# Altium footprint library XS128.PcbLib: 26 footprints (part 2 of 2)
Each footprint in its own frame and in the unit in brackets; x right, y up, seen from the top. Pads: shape width x height; smd on the part's side, far side on the other; paste and mask are expansions set on the pad; w line width, h text height; cw(c..) or ccw(c..) is an arc to the next point about the centre after c.
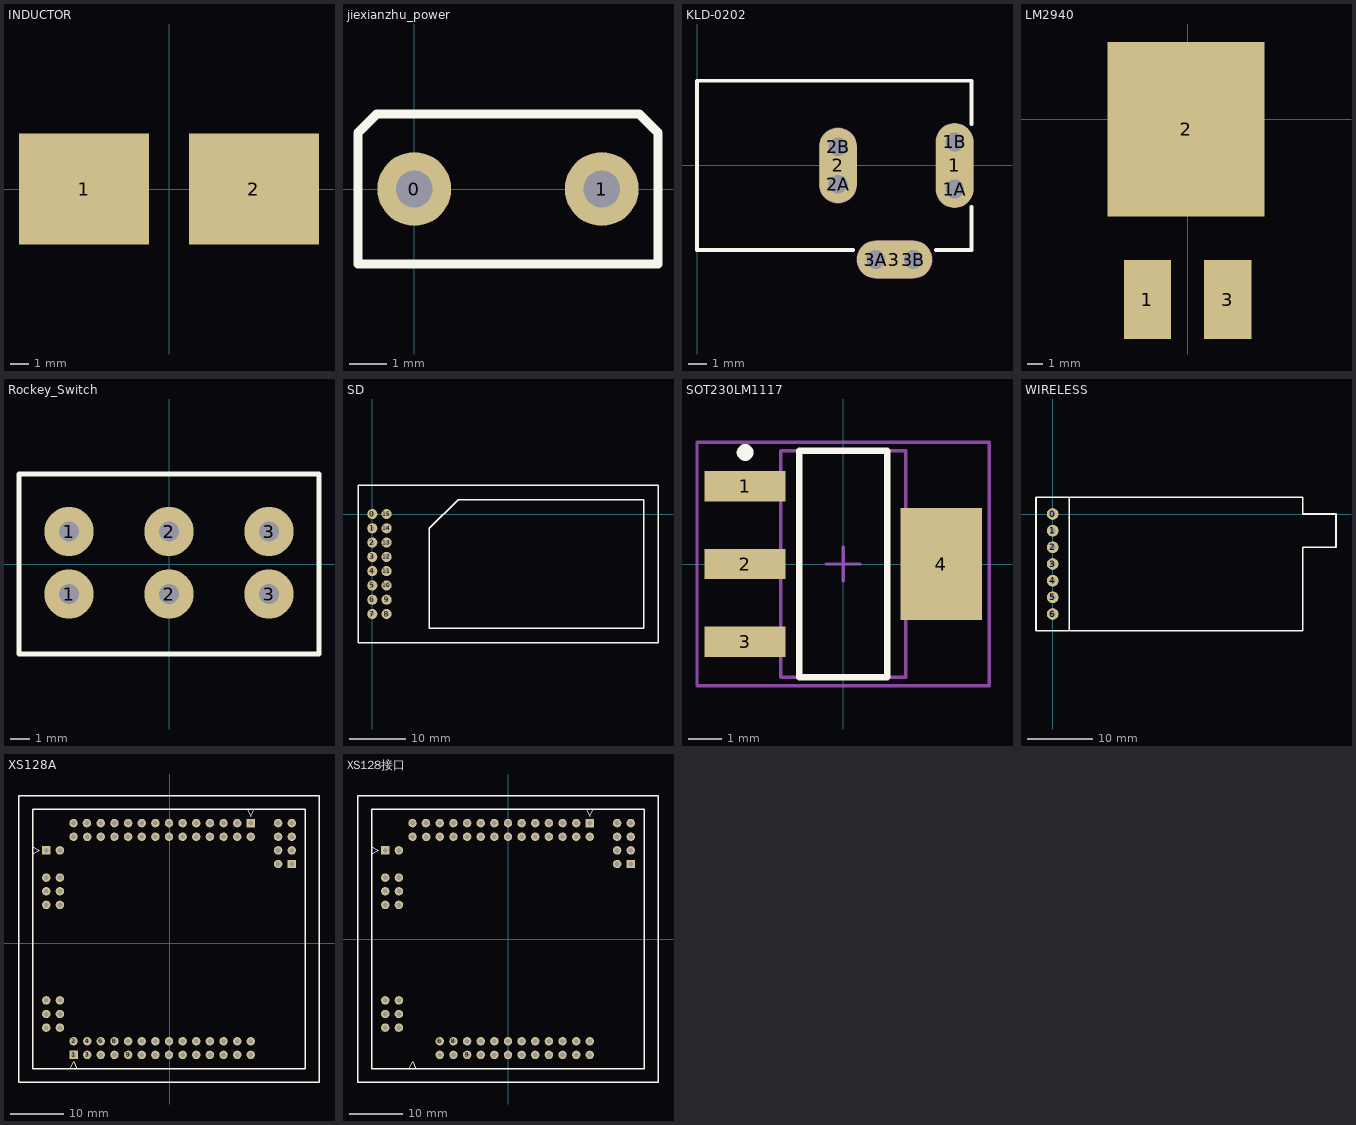
[diagram p1: the footprints below, top view; thin cyan lines are the x and y axes]

## INDUCTOR [mm]
pads (2):
  rect 7x6 smd: 1(-4.572,0) 2(4.572,0)

## jiexianzhu_power [mm]
pads (2):
  round 2 hole 1: 0(0,0) 1(5.08,0)
Top Overlay:
  lines w0.254: -1.524,-2.032 6.604,-2.032 6.604,1.524 6.096,2.032 -1.016,2.032 -1.524,1.524 -1.524,-2.032

## KLD-0202 [mm] "DC Power Jack, 2.5mm, KLD Series, PCB Mount"
pads (9):
  oval 2x4.5 all layers, no hole: 1(13.7,0)
  round 1.5 hole 1: 1A(13.7,-1.25) 1B(13.7,1.25) 2A(7.5,-1) 2B(7.5,1) 3A(9.5,-5) 3B(11.5,-5)
  oval 2x4 all layers, no hole: 2(7.5,0)
  oval 4x2 all layers, no hole: 3(10.5,-5)
Top Overlay:
  lines w0.2: 8.3,-4.5 0,-4.5 0,4.5 14.6,4.5 14.6,2.2 ; 12.7,-4.5 14.6,-4.5 14.6,-2.2
Mechanical 1:
  lines w1: 7.5,-1 7.5,1 ; 9.5,-5 11.5,-5 ; 13.7,-1.25 13.7,1.25
  text "Alert PCB fab to slot details" at 0.286,6.066 h0.3
  text "Assign keep-out area to slot" at 0.286,6.566 h0.3
  text "Mech 1 - Slot cut-out" at 0.286,5.566 h0.3
  text "Mech 2 - Clearance, move to internal plane if present" at 0.286,5.066 h0.3
Mechanical 2:
  lines w2.016: 7.5,-1 7.5,1 ; 9.5,-5 11.5,-5 ; 13.7,-1.25 13.7,1.25

## LM2940 [mm]
pads (3):
  rect 3x5 smd: 1(-2.54,-11.43) 3(2.54,-11.43)
  rect 9.924x11.07 smd: 2(-0.1,-0.635)
Bottom Overlay:
  lines w0.254: -5.08,5.08 5.08,5.08
  lines w0.305: -5.08,5.08 -5.08,-6.35 5.08,-6.35 5.08,5.08 ; -2.54,-9.906 -2.54,-6.35 ; 2.54,-9.906 2.54,-6.35

## Rockey_Switch [mm]
pads (6):
  round 2.5 hole 1: 1(-5.08,-1.524) 1(-5.08,1.651) 2(0,-1.524) 2(0,1.651) 3(5.08,-1.524) 3(5.08,1.651)
Top Overlay:
  lines w0.254: -7.62,-4.572 7.62,-4.572 7.62,4.572 -7.62,4.572 -7.62,-4.572

## SD [mm]
pads (16):
  round 1.8 hole 0.8: 0(0,0) 1(0,-2.54) 2(0,-5.08) 3(0,-7.62) 4(0,-10.16) 5(0,-12.7) 6(0,-15.24) 7(0,-17.78) 8(2.54,-17.78) 9(2.54,-15.24) 10(2.54,-12.7) 11(2.54,-10.16) 12(2.54,-7.62) 13(2.54,-5.08) 14(2.54,-2.54) 15(2.54,0)
Top Overlay:
  lines w0.254: -2.54,-22.86 -2.54,5.08 50.8,5.08 50.8,-22.86 -2.54,-22.86 ; 10.16,-20.32 10.16,-2.54 15.24,2.54 48.26,2.54 48.26,-20.32 10.16,-20.32

## SOT230LM1117 [mm]
pads (4):
  rect 2.4x0.9 smd: 1(-2.9,2.3) 2(-2.9,0) 3(-2.9,-2.3)
  rect 2.4x3.3 smd: 4(2.9,0)
Top Overlay:
  circle w0.25: c-2.9,3.3 r0.125
  lines w0.2: -1.3,-3.35 1.3,-3.35 1.3,3.35 -1.3,3.35 -1.3,-3.35
Mechanical 13:
  lines w0.1: -1.85,-3.35 1.85,-3.35 1.85,3.35 -1.85,3.35 -1.85,-3.35
Mechanical 15:
  lines w0.1: -0.5,0 0.5,0 ; 0,-0.5 0,0.5 ; -4.325,-3.6 4.325,-3.6 4.325,3.6 -4.325,3.6 -4.325,-3.6
3D body: height 1.8, standoff 0.02, extent -1.85,-3.35 1.85,3.35

## WIRELESS [mm]
pads (7):
  round 1.8 hole 0.8: 0(0,0) 1(0,-2.54) 2(0,-5.08) 3(0,-7.62) 4(0,-10.16) 5(0,-12.7) 6(0,-15.24)
Top Overlay:
  lines w0.254: 2.54,-17.78 2.54,2.54 ; -2.54,-17.78 38.1,-17.78 38.1,-5.08 43.18,-5.08 43.18,0 38.1,0 38.1,2.54 -2.54,2.54 -2.54,-17.78

## XS128A [mil]
pads (78):
  rect 62x62 hole 35: 1(-705,-820) 37(895,580) 45(595,880) 201(-905,680)
  round 62 hole 35: 2(-705,-720) 3(-605,-820) 4(-605,-720) 6(-505,-720) 8(-405,-720) 9(-305,-820) 10(-305,-720) 11(-205,-820) 12(-205,-720) 13(-105,-820) 14(-105,-720) 15(-5,-820) 16(-5,-720) 17(95,-720) 18(95,-820) 19(195,-820) 20(195,-720) 21(295,-820) 22(295,-720) 23(395,-820) 24(395,-720) 25(495,-820) 26(495,-720) 27(595,-820) 28(595,-720) 38(795,580) 39(895,680) 40(795,680) 41(895,780) 42(795,780) 43(895,880) 44(795,880) 46(595,780) 47(495,880) 48(495,780) 49(395,880) 50(395,780) 51(295,880) 52(295,780) 53(195,880) 54(195,780) 55(95,880) 56(95,780) 57(-5,880) 58(-5,780) 59(-105,880) 60(-105,780) 61(-205,880) 62(-205,780) 63(-305,880) 64(-305,780) 65(-405,880) 66(-405,780) 67(-505,880) 68(-505,780) 69(-705,880) 70(-705,780) 71(-805,480) 72(-905,480) 73(-805,380) 74(-905,380) 75(-805,280) 76(-905,280) 89(-805,-420) 90(-905,-520) 91(-805,-520) 92(-905,-620) 93(-805,-620) 202(-805,680) 223(-905,-420) 325(-607,880) 326(-604,779) " 5"(-505,-820) " 7"(-405,-820)
Top Overlay:
  lines w8: -1005,655 -955,680 -1005,705 ; -730,-920 -705,-870 -680,-920 ; 570,980 595,930 620,980
  lines w10: -1105,-1020 -1105,1040 -1105,1080 1095,1080 1095,-1020 -1105,-1020 ; -1005,-920 -1005,980 995,980 995,-920 -1005,-920

## XS128接口 [mil]
pads (74):
  round 62 hole 35: 6(-500,-750) 8(-400,-750) 9(-300,-850) 10(-300,-750) 11(-200,-850) 12(-200,-750) 13(-100,-850) 14(-100,-750) 15(0,-850) 16(0,-750) 17(100,-750) 18(100,-850) 19(200,-850) 20(200,-750) 21(300,-850) 22(300,-750) 23(400,-850) 24(400,-750) 25(500,-850) 26(500,-750) 27(600,-850) 28(600,-750) 38(800,550) 39(900,650) 40(800,650) 41(900,750) 42(800,750) 43(900,850) 44(800,850) 46(600,750) 47(500,850) 48(500,750) 49(400,850) 50(400,750) 51(300,850) 52(300,750) 53(200,850) 54(200,750) 55(100,850) 56(100,750) 57(0,850) 58(0,750) 59(-100,850) 60(-100,750) 61(-200,850) 62(-200,750) 63(-300,850) 64(-300,750) 65(-400,850) 66(-400,750) 67(-500,850) 68(-500,750) 69(-700,850) 70(-700,750) 71(-800,450) 72(-900,450) 73(-800,350) 74(-900,350) 75(-800,250) 76(-900,250) 89(-800,-450) 90(-900,-550) 91(-800,-550) 92(-900,-650) 93(-800,-650) 202(-800,650) 223(-900,-450) 325(-602,850) 326(-599,749) " 5"(-500,-850) " 7"(-400,-850)
  rect 62x62 hole 35: 37(900,550) 45(600,850) 201(-900,650)
Top Overlay:
  lines w8: -1000,625 -950,650 -1000,675 ; -725,-950 -700,-900 -675,-950 ; 575,950 600,900 625,950
  lines w10: -1100,-1050 1100,-1050 1100,1050 -1100,1050 -1100,1010 -1100,-1050 ; -1000,-950 1000,-950 1000,950 -1000,950 -1000,-950